# EAGLE library part SL10 (library MRDT-Connectors)
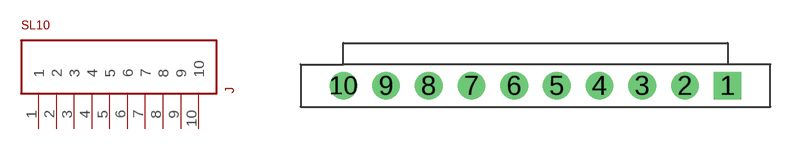
[diagram p6: symbol with the pads of MOLEX-70543-0009; footprint MOLEX-70543-0009]

Designator prefix J

## SL10  [MOLEX-70543-0009]
1  1
2  2
3  3
4  4
5  5
6  6
7  7
8  8
9  9
10  10

## Footprint MOLEX-70543-0009 (pad centres in mm)
drill 1.1 square: 1 11.43,0
drill 1.1: 2 8.89,0; 3 6.35,0; 4 3.81,0; 5 1.27,0; 6 -1.27,0; 7 -3.81,0; 8 -6.35,0; 9 -8.89,0; 10 -11.43,0